# Altium footprint library PCB - CONNECTOR - CUI - CUI SJ2-3574A-SMT-TR.PCBLIB: 1 footprints
Each footprint in its own frame and in the unit in brackets; x right, y up, seen from the top. Pads: shape width x height; smd on the part's side, far side on the other; paste and mask are expansions set on the pad; w line width, h text height; cw(c..) or ccw(c..) is an arc to the next point about the centre after c.
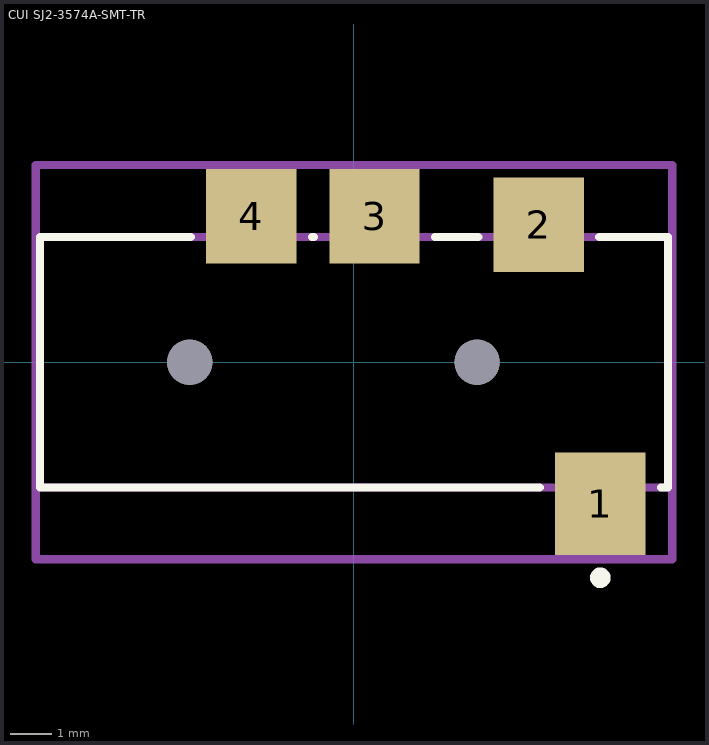
[diagram p0: the footprint, top view; thin cyan lines are the x and y axes]

## CUI SJ2-3574A-SMT-TR [mm]
pads (6):
  rect 2.2x2.5 smd paste+0 mask+0: 1(6,-3.45)
  rect 2.2x2.3 smd paste+0 mask+0: 2(4.5,3.35) 3(0.5,3.55) 4(-2.5,3.55)
  round 1.1 hole 1.1 unplated paste-1000 mask+0: ""(-4,0) ""(3,0)
Top Overlay:
  circle w0.25: c6,-5.25 r0.125
  lines w0.2: -3.975,3.05 -7.65,3.05 -7.65,-3.05 4.525,-3.05 ; -1.025,3.05 -0.975,3.05 ; 1.975,3.05 3.025,3.05 ; 5.975,3.05 7.65,3.05 7.65,-3.05 7.475,-3.05
Mechanical 13:
  lines w0.2: -7.65,-3.05 7.65,-3.05 7.65,3.05 -7.65,3.05 -7.65,-3.05
Mechanical 15:
  lines w0.2: -7.75,-4.8 7.75,-4.8 7.75,4.8 -7.75,4.8 -7.75,-4.8
3D body "CUI SJ2-3574A-SMT-TR.step": height 5.35, standoff -0.45, extent -7.634,-4.2 7.366,4.2